# Altium integrated library Texas Instruments Interface Ethernet.IntLib: 2 symbols
Pins are listed as number, name and electrical type; pins without a type are passive.

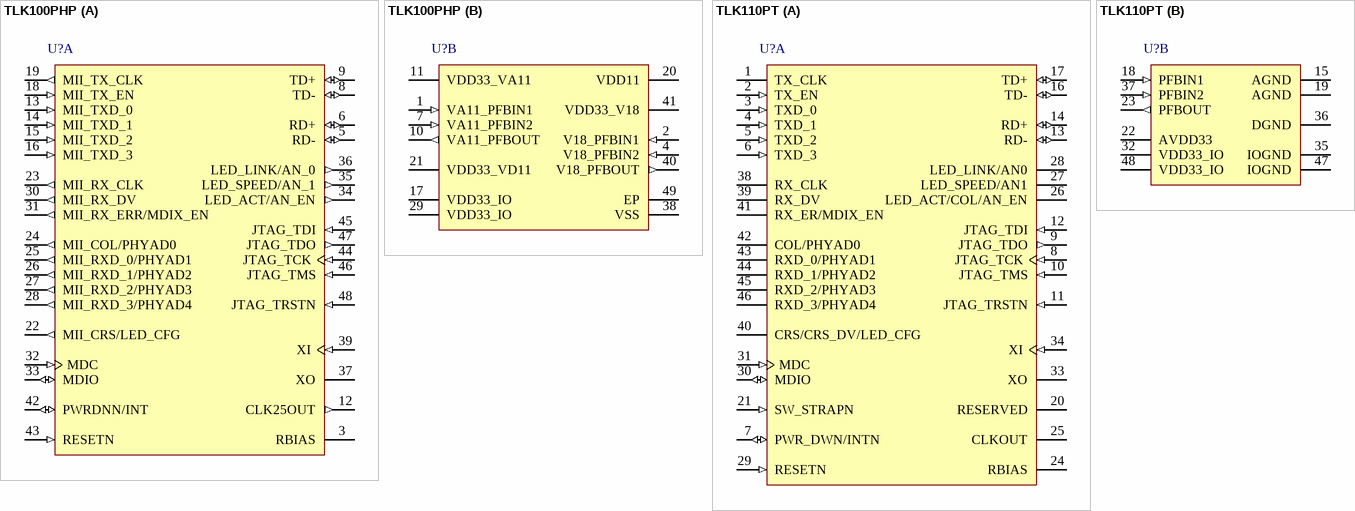
[diagram p0: symbols TLK100PHP to TLK110PT]

## TLK100PHP
designator U?
Industrial Temp, Single Port 10/100 Mb/s Ethernet Physical Layer Transceiver, -40 to 85 degC, 48-Pin HTQFP (PHP), Green (RoHS & no Sb/Br); SubFamily: PHY; Interface: MII; Cable Length(m): 200; LED(#): 3; SupplyVoltage(Volt): 3.3; JTAG1149.1: Yes; Special Features: Cable Diagnostics; DatasheetVersion: SLLS931B; PackageVersion: revB, Aug-2003; PackageReference: PHP48-2615X2615TP; PackageDescription: 48-Pin Plastic Quad Flat Pack, 7 x 7 mm Body, 0.5 mm Pitch, Exposed Pad; Port Count: Single; ComponentLink1Description: Manufacturer URL; ComponentLink1URL: www.ti.com; ComponentLink2Description: Datasheet; ComponentLink2URL: http://www.ti.com/general/docs/lit/getliterature.tsp?genericPartNumber=TLK100&fileType=pdf; ComponentLink3Description: Package Specification; ComponentLink3URL: http://www.ti.com/litv/pdf/mpqf051a
footprint TI-PHP48-2615X2615TP_N (Thin QFP, 48-Leads, Body 7x7mm, Pitch 0.5mm, Thermal Pad 3x3mm, IPC Medium Density)
footprint TI-PHP48-2615X2615TP_L (Thin QFP, 48-Leads, Body 7x7mm, Pitch 0.5mm, Thermal Pad 3x3mm, IPC High Density)
footprint TI-PHP48-2615X2615TP_M (Thin QFP, 48-Leads, Body 7x7mm, Pitch 0.5mm, Thermal Pad 3x3mm, IPC Low Density)
part A pins: 3 RBIAS "Bias Resistor Connection. Use a 4.99k ohm 1% resistor connected from RBIAS to GND.", 5 RD- (io) "Differential receive input (PMD Input Pair). These differential inputs are automatically configured to accept either 100BASE-TX or 10BASE-T signaling. [see datasheet]", 6 RD+ (io) "Differential receive input (PMD Input Pair). These differential inputs are automatically configured to accept either 100BASE-TX or 10BASE-T signaling. [see datasheet]", 8 TD- (io) "Differential common driver transmit output (PMD Output Pair). These differential outputs are automatically configured to either 10BASE-T or 100BASE-TX signaling. [see datasheet]", 9 TD+ (io) "Differential common driver transmit output (PMD Output Pair). These differential outputs are automatically configured to either 10BASE-T or 100BASE-TX signaling. [see datasheet]", 12 CLK25OUT (out) "25 MHz CLOCK OUTPUT: In MII mode, this pin provides a 25 MHz clock output to the system. [see datasheet]", 13 MII_TXD_0 (in) "MII TRANSMIT DATA: The transmit data nibble received from the MAC that is 15 synchronous to the rising edge of the MII_TX_CLK.", 14 MII_TXD_1 (in) "MII TRANSMIT DATA: The transmit data nibble received from the MAC that is 15 synchronous to the rising edge of the MII_TX_CLK.", 15 MII_TXD_2 (in) "MII TRANSMIT DATA: The transmit data nibble received from the MAC that is 15 synchronous to the rising edge of the MII_TX_CLK.", 16 MII_TXD_3 (in) "MII TRANSMIT DATA: The transmit data nibble received from the MAC that is 15 synchronous to the rising edge of the MII_TX_CLK.", 18 MII_TX_EN (in) "MII TRANSMIT ENABLE: MII_TX_EN is presented on the rising edge of the MII_TX_CLK . It indicates the presence of valid data inputs on MII_TXD[3:0]. It is an active high signal.", 19 MII_TX_CLK (out) "MII TRANSMIT CLOCK: : MII Transmit Clock provides 25MHz or 2.5MHz reference clock depending on the speed.", 22 MII_CRS/LED_CFG (out) "MII CARRIER SENSE: This pin is asserted high when the receive medium is non-idle.", 23 MII_RX_CLK (out) "MII RECEIVE CLOCK: MII receive clock provides a 25MHz or 2.5MHz reference clock, depending on the speed, that is derived from the received data stream.", 24 MII_COL/PHYAD0 (out) "MII COLLISION DETECT: In Full Duplex Mode this pin is always low. [see datasheet]", 25 MII_RXD_0/PHYAD1 (out) "MII RECEIVE DATA: Symbols received on the cable are decoded and presented on these pins synchronous to MII_RX_CLK. They contain valid data when MII_RX_DV is asserted.", 26 MII_RXD_1/PHYAD2 (out) "MII RECEIVE DATA: Symbols received on the cable are decoded and presented on these pins synchronous to MII_RX_CLK. They contain valid data when MII_RX_DV is asserted.", 27 MII_RXD_2/PHYAD3 (out) "MII RECEIVE DATA: Symbols received on the cable are decoded and presented on these pins synchronous to MII_RX_CLK. They contain valid data when MII_RX_DV is asserted.", 28 MII_RXD_3/PHYAD4 (out) "MII RECEIVE DATA: Symbols received on the cable are decoded and presented on these pins synchronous to MII_RX_CLK. They contain valid data when MII_RX_DV is asserted.", 30 MII_RX_DV (out) "MII RECEIVE DATA VALID: This pin indicates valid data is present on the corresponding MII_RXD[3:0].", 31 MII_RX_ERR/MDIX_EN (out) "MII RECEIVE ERROR: This pin indicates that an error symbol has been detected within a received packet", 32 MDC (in) "MANAGEMENT DATA CLOCK: Clock signal for the management data input/output (MDIO) interface. The maximum MDC rate is 25 MHz; there is no minimum MDC rate. [see datasheet]", 33 MDIO (io) "MANAGEMENT DATA I/O: Bidirectional command / data signal synchronized to MDC. Either the local controller or the TLK100 may drive the MDIO signal. [see datasheet]", 34 LED_ACT/AN_EN (out) "In mode 1 this pin indicates if there is any activity on the link. It is ON (pulse) when activity is present on either Transmit or Receive channel. [see datasheet]", 35 LED_SPEED/AN_1 (out) "This pin indicates the speed of the link. It is ON when the link speed is 100 Mb/s and OFF when it is 10 Mb/s", 36 LED_LINK/AN_0 (out) "This pin indicates the status of the link in Mode 1. When the link is good the LED will be ON. [see datasheet]", 37 XO "CRYSTAL OUTPUT: Reference Clock output. XO pin is used for crystal only. This pin should be left floating when an oscillator input is connected to XI.", 39 XI (in) "CRYSTAL/OSCILLATOR INPUT: Reference clock. 25MHz +/-50 ppm tolerance crystal reference or oscillator input. [see datasheet]", 42 PWRDNN/INT (io) "Register access is required for this pin to be configured either as power down or as an interrupt.The pin has an open-drain output with a weak internal pull-up. [see datasheet]", 43 RESETN (in) "This pin is an active Low reset input that initializes or re-initializes all the internal registers of the Asserting this pin low for at least 1 us will force a reset process to occur. [see datasheet]", 44 JTAG_TCK (in) "This pin is the test clock.This pin has a weak internal pullup", 45 JTAG_TDI (in) "This pin is the test data input.This pin has a weak internal pullup.", 46 JTAG_TMS (in) "This pin selects the test mode. This pin has a weak internal pullup.", 47 JTAG_TDO (out) "This pin is the test data output.", 48 JTAG_TRSTN (in) "This pin is an active low asynchronous test reset. This pin has a weak internal pullup."
part B pins: 1 VA11_PFBIN1 (in) "1.1V Analog Power Feedback Input. These pins are fed with power from: VA11_PFBOUT (pin 10) in single supply operatio 1.1V from external source in multiple supply operation. [see datasheet]", 2 V18_PFBIN1 (in) "1.8V Power Feedback Input. These pins are fed with power from V18_PFBOUT (pin 40) in single supply operation 1.8V from external source in multiple supply operation. [see datasheet]", 4 V18_PFBIN2 (in) "1.8V Power Feedback Input. These pins are fed with power from V18_PFBOUT (pin 40) in single supply operation 1.8V from external source in multiple supply operation. [see datasheet]", 7 VA11_PFBIN2 (in) "1.1V Analog Power Feedback Input. These pins are fed with power from: VA11_PFBOUT (pin 10) in single supply operatio 1.1V from external source in multiple supply operation. [see datasheet]", 10 VA11_PFBOUT (out) "1.1V Analog Power Feedback Output. A 1 uF capacitor (Ceramic preferred), should be placed close to the VA11_PFBOUT. [see datasheet]", 11 VDD33_VA11 (power) "External supply input to 1.1V analog regulator This pin should be connected to 3.3V or 2.5V external supply, in single supply operation. [see datasheet]", 17 VDD33_IO (power) "I/O 3.3V Supply", 20 VDD11 (power) "1.1V Core Power Output. A capacitor of 1uF (Ceramic preferred) , should be placed close to the VDD11", 21 VDD33_VD11 (power) "External supply input to 1.1V analog regulator This pin should be connected to 3.3V or 2.5V external supply, in single supply operation. [see datasheet]", 29 VDD33_IO (power) "I/O 3.3V Supply", 38 VSS (power) "Ground pin for Oscillator", 40 V18_PFBOUT (out) "1.8V Power Feedback Output.", 41 VDD33_V18 (power) "External supply input to 1.8V regulator In single supply operation, this pin should be connected to a 3.3V or 2.5V external supply. [see datasheet]", 49 EP (power) "Exposed pad"

## TLK110PT
designator U?
Industrial Temp, Single Port 10/100 Mb/s Ethernet Physical Layer Transceiver, -40 to 85 degC, 48-Pin LQFP (PT), Green (RoHS & no Sb/Br); SubFamily: PHY; Interface: MII, RMII; Cable Length(m): 150; LED(#): 3; SupplyVoltage(Volt): 3.3; JTAG1149.1: Yes; Special Features: Cable Diagnostics; DatasheetVersion: SLLS901A; PackageVersion: revC, Nov-1996; PackageReference: PT48; PackageDescription: 48-Pin Plastic Quad Flat Pack, 7 x 7 mm Body, 0.5 mm Pitch; Port Count: Single; ComponentLink1Description: Manufacturer URL; ComponentLink1URL: www.ti.com; ComponentLink2Description: Datasheet; ComponentLink2URL: http://www.ti.com/general/docs/lit/getliterature.tsp?genericPartNumber=TLK110&fileType=pdf; ComponentLink3Description: Package Specification; ComponentLink3URL: http://www.ti.com/litv/pdf/mtqf003a
footprint TI-PT48_N (Thin QFP, 48-Leads, Body 7x7mm, Pitch 0.5mm, IPC Medium Density)
footprint TI-PT48_L (Thin QFP, 48-Leads, Body 7x7mm, Pitch 0.5mm, IPC High Density)
footprint TI-PT48_M (Thin QFP, 48-Leads, Body 7x7mm, Pitch 0.5mm, IPC Low Density)
part A pins: 1 TX_CLK (hiz) "MII TRANSMIT CLOCK: this clock has constant phase referenced to REF_CLK.", 2 TX_EN (in) "TRANSMIT ENABLE: MII_TX_EN is presented on the rising edge of the MII_TX_CLK . [see datasheet]", 3 TXD_0 (in) "TRANSMIT DATA: In MII mode, it is the transmit data nibble received from the MAC that is synchronous to the rising edge of the TX_CLK signal. [see datasheet]", 4 TXD_1 (in) "TRANSMIT DATA: In MII mode, it is the transmit data nibble received from the MAC that is synchronous to the rising edge of the TX_CLK signal. [see datasheet]", 5 TXD_2 (in) "TRANSMIT DATA: In MII mode, it is the transmit data nibble received from the MAC that is synchronous to the rising edge of the TX_CLK signal. [see datasheet]", 6 TXD_3 (in) "TRANSMIT DATA: In MII mode, it is the transmit data nibble received from the MAC that is synchronous to the rising edge of the TX_CLK signal. [see datasheet]", 7 PWR_DWN/INTN (io) "Register access is required for this pin to be configured either as power down or as an interrupt. The default function of this pin is power down[see datasheet]", 8 JTAG_TCK (in) "JTAG Test Clock: This pin has a weak internal pullup.", 9 JTAG_TDO (out) "JTAG Test Data Output", 10 JTAG_TMS (in) "JTAG Test Mode Select: This pin has a weak internal pullup.", 11 JTAG_TRSTN (in) "JTAG Reset: This pin is an active low asynchronous test reset. This pin has a weak internal pullup.", 12 JTAG_TDI (in) "JTAG Test Data Input: This pin has a weak internal pullup.", 13 RD- (io) "Differential receive input (PMD Input Pair). These differential inputs are automatically configured to accept either 100Base-TX or 10Base-T signaling. [see datasheet]", 14 RD+ (io) "Differential receive input (PMD Input Pair). These differential inputs are automatically configured to accept either 100Base-TX or 10Base-T signaling. [see datasheet]", 16 TD- (io) "Differential common driver transmit output (PMD Output Pair). These differential outputs are automatically configured to either 10Base-T or 100Base-TX signaling. [see datasheet]", 17 TD+ (io) "Differential common driver transmit output (PMD Output Pair). These differential outputs are automatically configured to either 10Base-T or 100Base-TX signaling. [see datasheet]", 20 RESERVED "RESERVED: This pin must be pulled-up through 2.2 kohm resistor to AVDD33 supply", 21 SW_STRAPN (in) "Software Strapping Mode: The TLK110 provides a mechanism to extend the number of configuration pins to allow wider system programmability of PHY functions. [see datasheet]", 24 RBIAS "Bias Resistor Connection. Use a 4.87k ohm 1% resistor connected from RBIAS to GND.", 25 CLKOUT (hiz) "CLOCK OUTPUT: In MII mode, this pin provides a 25 MHz clock output to the system. In RMII mode, this pin provides a 50MHz clock output. [see datasheet]", 26 LED_ACT/COL/AN_EN (hiz) "LED Pin to indicate status.[see datasheet]", 27 LED_SPEED/AN1 (hiz) "LED Pin to indicate the speed of the link. SPEED Indication LED indicates whether the link is 100Mb/s or 10Mb/s. It is ON when the link speed is 100Mbs and OFF when it is 10Mbs.", 28 LED_LINK/AN0 (hiz) "LED Pin to indicate status.[see datasheet]", 29 RESETN (in) "This pin is an active-low reset input that initializes or re-initializes all the internal registers of the. [see datasheet]", 30 MDIO (io) "MANAGEMENT DATA I/O: Bidirectional command / data signal synchronized to MDC. Either the local controller or the TLK110 may drive the MDIO signal. [see datasheet]", 31 MDC (in) "MANAGEMENT DATA CLOCK: Clock signal for the management data input/output (MDIO) interface. The maximum MDC rate is 25 MHz; there is no minimum MDC rate. [see datasheet]", 33 XO "CRYSTAL OUTPUT: Reference Clock output. XO pin is used for crystal only. This pin should be left floating when an oscillator input is connected to XI.", 34 XI (in) "MII reference clock Reference clock.  It must be connected to a 50MHz +/-50ppm-tolerance CMOS-level oscillator source.", 38 RX_CLK (hiz) "RECEIVE CLOCK: In MII mode it is the receive clock that provides either a 25MHz or 2.5MHz reference clock, depending on the speed, that is derived from the received data stream", 39 RX_DV (hiz) "RECEIVE DATA VALID: This pin indicates valid data is present on the RXD [3:0] for MII mode or on RXD [1:0] for RMII mode, independently from Carrier Sense.", 40 CRS/CRS_DV/LED_CFG (hiz) "CARRIER SENSE: In MII mode this pin is asserted high when the receive medium is non-idle. this pin combines the RMII Carrier and Receive Data Valid indications.", 41 RX_ER/MDIX_EN (hiz) "RECEIVE ERROR: This pin indicates that an error symbol has been detected within a received packet in both MII and RMII mode. [see datasheet]", 42 COL/PHYAD0 (hiz) "COLLISION DETECT: For MII mode in Full Duplex Mode this pin is always low.This pin is not used in RMII mode.[see datasheet]", 43 RXD_0/PHYAD1 (hiz) "RECEIVE DATA: Symbols received on the cable are decoded and presented on these pins synchronous to RX_CLK. [see datasheet]", 44 RXD_1/PHYAD2 (hiz) "RECEIVE DATA: Symbols received on the cable are decoded and presented on these pins synchronous to RX_CLK. [see datasheet]", 45 RXD_2/PHYAD3 (hiz) "RECEIVE DATA: Symbols received on the cable are decoded and presented on these pins synchronous to RX_CLK. [see datasheet]", 46 RXD_3/PHYAD4 (hiz) "RECEIVE DATA: Symbols received on the cable are decoded and presented on these pins synchronous to RX_CLK. [see datasheet]"
part B pins: 15 AGND (power) "Analog ground", 18 PFBIN1 (in) "Power Feedback Input. These pins are fed with power from PFBOUT (pin 23) in single supply operation.", 19 AGND (power) "Analog ground", 22 AVDD33 (power) "Analog 3.3V power supply", 23 PFBOUT (out) "Power Feedback Output. 10uf and 0.1uF capacitors (ceramic preferred), should be placed close to PFBOUT.[see datasheet]", 32 VDD33_IO (power) "I/O 3.3V Supply", 35 IOGND (power) "I/O ground", 36 DGND (power) "Digital ground", 37 PFBIN2 (in) "Power Feedback Input.", 47 IOGND (power) "I/O ground", 48 VDD33_IO (power) "I/O 3.3V Supply"